# Altium footprint library Wurth_Elektronik_Passive_rev16a.PCBLIB: 810 footprints (part 23 of 51)
Each footprint in its own frame and in the unit in brackets; x right, y up, seen from the top. Pads: shape width x height; smd on the part's side, far side on the other; paste and mask are expansions set on the pad; w line width, h text height; cw(c..) or ccw(c..) is an arc to the next point about the centre after c.
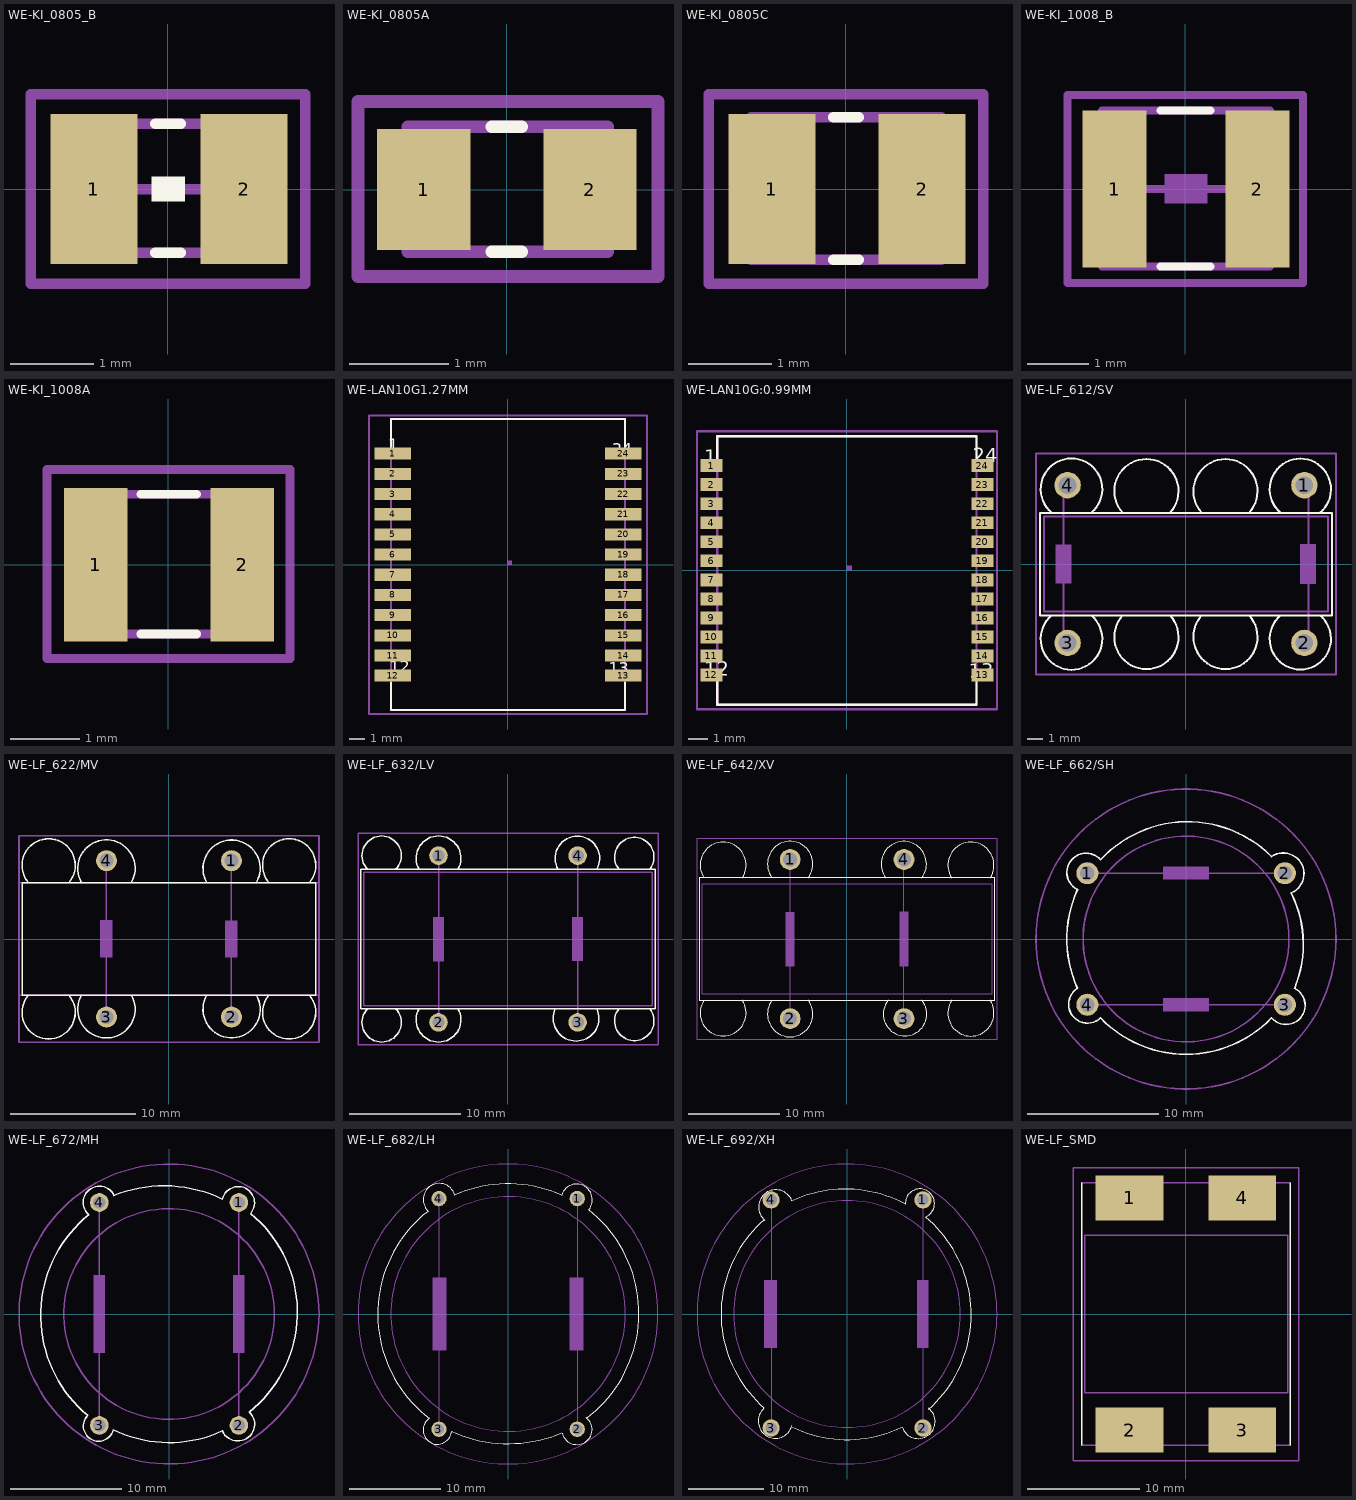
[diagram p22: the footprints below, top view; thin cyan lines are the x and y axes]

## WE-KI_0805_B [mil]
pads (2):
  rect 41x71 smd: 1(-35.04,0) 2(36,0)
Top Overlay:
  region: 7.98,-5.89 7.98,6.02 -7.89,6.02 -7.89,-5.89
  lines w5: -5.91,-30.12 6,-30.12 ; -5.91,31 6,31
Mechanical 2:
  text ">NAME" at -62.34,-87.01 h37.2
Mechanical 4:
  text ">VALUE" at -62.34,62 h37.2
Mechanical 16:
  lines w5: -35.04,0 36,0 ; -40.35,-30.12 41,-30.12 41,31 -40.35,31 -40.35,-30.12
Mechanical 27:
  lines w5: -64.96,-44.88 -64.96,45 65,45 65,-44.88 -64.96,-44.88

## WE-KI_0805A [mil]
pads (2):
  rect 37x48 smd: 1(-32.97,0) 2(33,0)
Top Overlay:
  lines w5: -5.91,-24.61 6,-24.61 ; -5.91,25 6,25
Mechanical 2:
  text ">NAME" at -59.06,-66.93 h18.6
Mechanical 4:
  text ">VALUE" at -59.06,56 h18.6
Mechanical 16:
  lines w5: -39.37,-24.61 40,-24.61 40,25 -39.37,25 -39.37,-24.61
Mechanical 27:
  lines w5: -59.06,-34.45 -59.06,35 60,35 60,-34.45 -59.06,-34.45

## WE-KI_0805C [mil]
pads (2):
  rect 41x71 smd: 1(-35.04,0) 2(36,0)
Top Overlay:
  lines w5: -5.91,-33.46 6,-33.46 ; -5.91,34 6,34
Mechanical 2:
  text ">NAME" at -66.93,-74.8 h18.6
Mechanical 4:
  text ">VALUE" at -66.93,63 h18.6
Mechanical 16:
  lines w5: -44.88,-33.46 45,-33.46 45,34 -44.88,34 -44.88,-33.46
Mechanical 27:
  lines w5: -64.96,-44.88 -64.96,45 65,45 65,-44.88 -64.96,-44.88

## WE-KI_1008_B [mil]
pads (2):
  rect 41x100 smd: 1(-45.08,0) 2(46,0)
Top Overlay:
  lines w5: -15.75,-49.21 16,-49.21 ; -15.75,50 16,50
Mechanical 2:
  text ">NAME" at -72.19,-89.84 h37.2
Mechanical 4:
  text ">VALUE" at -72.19,65 h37.2
Mechanical 16:
  region: 14.25,-9.27 14.25,9.75 -13.27,9.75 -13.27,-9.27
  lines w5: -45.08,0 46,0 ; -53.15,-49.21 54,-49.21 54,50 -53.15,50 -53.15,-49.21
Mechanical 27:
  lines w5: -75,-59.84 -75,60 75,60 75,-59.84 -75,-59.84

## WE-KI_1008A [mil]
pads (2):
  rect 36x87 smd: 1(-41.34,0) 2(42,0)
Top Overlay:
  lines w5: -15.75,-39.37 16,-39.37 ; -15.75,40 16,40
Mechanical 2:
  text ">NAME" at -68.9,-78.74 h18.6
Mechanical 4:
  text ">VALUE" at -68.9,69 h18.6
Mechanical 16:
  lines w5: -49.21,-39.37 50,-39.37 50,40 -49.21,40 -49.21,-39.37
Mechanical 27:
  lines w5: -68.9,-53.15 -68.9,54 69,54 69,-53.15 -68.9,-53.15

## WE-LAN10G1.27MM [mil]
pads (24):
  rect 91x30 smd: 1(-285.04,275) 2(-285.04,225) 3(-285.04,175) 4(-285.04,125) 5(-285.04,75) 6(-285.04,25) 7(-285.04,-25) 8(-285.04,-75) 9(-285.04,-125) 10(-285.04,-175) 11(-285.04,-225) 12(-285.04,-275) 13(286,-275) 14(286,-225) 15(286,-175) 16(286,-125) 17(286,-75) 18(286,-25) 19(286,25) 20(286,75) 21(286,125) 22(286,175) 23(286,225) 24(286,275)
Top Overlay:
  lines w5: -289.37,-291.34 -289.37,-360.04 290,-360.04 290,-291.34 ; -289.37,292 -289.37,361 290,361 290,292
  text "1" at -296.85,274 h49.6
  text "12" at -292.13,-276.38 h49.6
  text "13" at 250,-280.31 h49.6
  text "24" at 258,262 h49.6
Mechanical 2:
  text ">NAME" at -123.23,412 h77.5
  text ">VALUE" at -142.91,-446.46 h77.5
Mechanical 10:
  region: 0,0 10,0 10,10 0,10
Mechanical 16:
  lines w5: -289.37,-360.04 290,-360.04 290,361 -289.37,361 -289.37,-360.04
Mechanical 27:
  lines w5: -344.29,-369.88 345,-369.88 345,370 -344.29,370 -344.29,-369.88

## WE-LAN10G:0.99MM [mil]
pads (24):
  rect 45x26 smd: 1(-277.56,215) 2(-277.56,176) 3(-277.56,137) 4(-277.56,98) 5(-277.56,59) 6(-277.56,20) 7(-277.56,-19.49) 8(-277.56,-58.46) 9(-277.56,-97.44) 10(-277.56,-136.42) 11(-277.56,-175.39) 12(-277.56,-214.37) 13(278,-214.37) 14(278,-175.39) 15(278,-136.42) 16(278,-97.44) 17(278,-58.46) 18(278,-19.49) 19(278,20) 20(278,59) 21(278,98) 22(278,137) 23(278,176) 24(278,215)
Top Overlay:
  lines w5: -265.75,-224.41 -265.75,-275 266,-275 266,-224.41 ; -265.75,229 -265.75,275 266,275 266,225
  text "1" at -292.13,208 h49.6
  text "12" at -292.13,-226.38 h49.6
  text "13" at 250,-230.31 h49.6
  text "24" at 258,212 h49.6
Mechanical 2:
  text ">NAME" at -173.23,312 h77.5
  text ">VALUE" at -192.91,-346.46 h77.5
Mechanical 10:
  region: 0,0 10,0 10,10 0,10
Mechanical 16:
  lines w5: -265.75,-275 -265.75,275 266,275 266,-275 -265.75,-275
Mechanical 27:
  lines w5: -307.09,-284.84 308,-284.84 308,285 -307.09,285 -307.09,-284.84

## WE-LF_612/SV [mil]
pads (4):
  round 66 hole 44: 1(296,197) 2(296,-196.85) 3(-295.28,-196.85) 4(-295.28,197)
Top Overlay:
  lines w5: -334.65,-127.95 -364.17,-127.95 -364.17,128 -334.65,128 ; -334.65,-127.95 -236.22,-127.95 ; -334.65,-127.95 ccw(c-285.43,-187.01) -236.22,-127.95 ; -334.65,128 -236.22,128 ; -334.65,128 cw(c-285.43,187.06) -236.22,128 ; -236.22,-127.95 -157.48,-127.95 ; -236.22,128 -157.48,128 ; -157.48,-127.95 -39.37,-127.95 ; -157.48,-127.95 ccw(c-98.43,-182.09) -39.37,-127.95 ; -157.48,128 -39.37,128 ; -157.48,128 cw(c-98.43,182.13) -39.37,128 ; -39.37,-127.95 40,-127.95 ; -39.37,128 40,128 ; 40,-127.95 158,-127.95 ; 40,-127.95 ccw(c99,-182.04) 158,-127.95 ; 40,128 158,128 ; 40,128 cw(c99,182.08) 158,128 ; 158,-127.95 237,-127.95 ; 158,128 237,128 ; 237,-127.95 335,-127.95 ; 237,-127.95 ccw(c286,-186.75) 335,-127.95 ; 237,128 335,128 ; 237,128 cw(c286,186.8) 335,128 ; 335,-127.95 365,-127.95 365,128 335,128
Mechanical 2:
  text ">NAME" at -225,-403.74 h108.5
Mechanical 4:
  text ">VALUE" at -225,329 h108.5
Mechanical 10:
  lines w5: -354.33,-118.11 -354.33,119 355,119 355,-118.11 -354.33,-118.11
Mechanical 16:
  region: 285.66,49.66 285.66,-49.34 325.34,-49.34 325.34,49.66
  region: -324.96,49.37 -324.96,-49.06 -285.27,-49.06 -285.27,49.37
  lines w5: -305.12,-196.85 -305.12,197 ; 306,-196.85 306,197
Mechanical 27:
  lines w5: -374.02,-275.59 -374.02,276 375,276 375,-275.59 -374.02,-275.59

## WE-LF_622/MV [mil]
pads (4):
  round 66 hole 44: 1(197,247) 2(197,-246.06) 3(-196.85,-246.06) 4(-196.85,247)
Top Overlay:
  lines w5: -442.91,-177.17 -462.6,-177.17 -462.6,178 -442.91,178 ; -442.91,-177.17 -314.96,-177.17 ; -442.91,-177.17 ccw(c-378.94,-231.3) -314.96,-177.17 ; -442.91,178 -314.96,178 ; -442.91,178 cw(c-378.94,232.13) -314.96,178 ; -314.96,-177.17 -275.59,-177.17 ; -314.96,178 -275.59,178 ; -275.59,-177.17 -118.11,-177.17 ; -275.59,-177.17 ccw(c-196.85,-221.46) -118.11,-177.17 ; -275.59,178 -118.11,178 ; -275.59,178 cw(c-196.85,222.29) -118.11,178 ; -118.11,-177.17 119,-177.17 ; -118.11,178 119,178 ; 119,-177.17 276,-177.17 ; 119,-177.17 ccw(c197.5,-221.32) 276,-177.17 ; 119,178 276,178 ; 119,178 cw(c197.5,222.16) 276,178 ; 276,-177.17 315,-177.17 ; 276,178 315,178 ; 315,-177.17 443,-177.17 ; 315,-177.17 ccw(c379,-231.32) 443,-177.17 ; 315,178 443,178 ; 315,178 cw(c379,232.15) 443,178 ; 443,-177.17 463,-177.17 463,178 443,178
Mechanical 2:
  text ">NAME" at -200,-425 h108.5
Mechanical 4:
  text ">VALUE" at -200,379 h108.5
Mechanical 10:
  lines w5: -472.44,-177.17 -472.44,178 473,178 473,-177.17 -472.44,-177.17
Mechanical 16:
  region: 177.16,59.16 177.16,-58.84 216.84,-58.84 216.84,59.16
  region: -216.69,59.21 -216.69,-58.9 -177,-58.9 -177,59.21
  lines w5: -196.85,-246.06 -196.85,247 ; 197,-246.06 197,247
Mechanical 27:
  lines w5: -472.44,-324.8 -472.44,325 473,325 473,-324.8 -472.44,-324.8

## WE-LF_632/LV [mil]
pads (4):
  round 66 hole 44: 1(-246.06,296) 2(-246.06,-295.28) 3(247,-295.28) 4(247,296)
Top Overlay:
  lines w5: -497.05,-246.06 -521.65,-246.06 -521.65,247 -497.05,247 ; -497.05,-246.06 -398.62,-246.06 ; -497.05,-246.06 ccw(c-447.83,-295.28) -398.62,-246.06 ; -497.05,247 -398.62,247 ; -497.05,247 cw(c-447.83,296.21) -398.62,247 ; -398.62,-246.06 -314.96,-246.06 ; -398.62,247 -314.96,247 ; -314.96,-246.06 -177.17,-246.06 ; -314.96,-246.06 ccw(c-246.06,-285.43) -177.17,-246.06 ; -314.96,247 -177.17,247 ; -314.96,247 cw(c-246.06,286.37) -177.17,247 ; -177.17,-246.06 168,-246.06 ; -177.17,247 178,247 ; 168,-246.06 315,-246.06 ; 168,-246.06 ccw(c241.5,-280.36) 315,-246.06 ; 178,247 315,247 ; 178,247 cw(c246.5,286.14) 315,247 ; 315,-246.06 394,-246.06 ; 315,247 394,247 ; 394,-246.06 502,-246.06 ; 394,-246.06 ccw(c448,-290.24) 502,-246.06 ; 394,247 502,247 ; 394,247 cw(c448,291.18) 502,247 ; 502,-246.06 522,-246.06 522,247 502,247
Mechanical 2:
  text ">NAME" at -300,-550 h155
Mechanical 4:
  text ">VALUE" at -300,400 h155
Mechanical 10:
  lines w5: -511.81,-236.22 512,-236.22 512,237 -511.81,237 -511.81,-236.22
Mechanical 16:
  region: -226.22,-78.58 -226.22,78.9 -265.91,78.9 -265.91,-78.58
  region: 266.34,-78.34 266.34,78.66 226.66,78.66 226.66,-78.34
  lines w5: -246.06,-295.28 -246.06,296 ; 247,-295.28 247,296
Mechanical 27:
  lines w5: -531.5,-374.02 532,-374.02 532,375 -531.5,375 -531.5,-374.02

## WE-LF_642/XV [mil]
pads (4):
  round 90 hole 60: 1(-246.06,345) 2(-246.06,-344.49) 3(247,-344.49) 4(247,345)
Top Overlay:
  lines w5: -620.08,-265.75 -639.76,-265.75 -639.76,266 -620.08,266 ; -620.08,-265.75 -452.76,-265.75 ; -620.08,-265.75 ccw(c-536.42,-319.88) -452.76,-265.75 ; -620.08,266 -452.76,266 ; -620.08,266 cw(c-536.42,320.13) -452.76,266 ; -452.76,-265.75 -324.8,-265.75 ; -452.76,266 -324.8,266 ; -324.8,-265.75 -167.32,-265.75 ; -324.8,-265.75 ccw(c-246.06,-324.8) -167.32,-265.75 ; -324.8,266 -167.32,266 ; -324.8,266 cw(c-246.06,325.06) -167.32,266 ; -167.32,-265.75 178,-265.75 ; -167.32,266 168,266 ; 168,266 325,266 ; 168,266 cw(c246.5,324.88) 325,266 ; 178,-265.75 325,-265.75 ; 178,-265.75 ccw(c251.5,-324.55) 325,-265.75 ; 325,-265.75 453,-265.75 ; 325,266 453,266 ; 453,-265.75 621,-265.75 ; 453,-265.75 ccw(c537,-320.1) 621,-265.75 ; 453,266 621,266 ; 453,266 cw(c537,320.35) 621,266 ; 621,-265.75 640,-265.75 640,266 621,266
Mechanical 2:
  text ">NAME" at -625,-550 h108.5
Mechanical 4:
  text ">VALUE" at -625,475 h108.5
Mechanical 10:
  lines w5: -629.92,-236.22 630,-236.22 630,237 -629.92,237 -629.92,-236.22
Mechanical 16:
  region: -226.22,-117.95 -226.22,118.27 -265.91,118.27 -265.91,-117.95
  region: 266.34,-118.34 266.34,118.66 226.66,118.66 226.66,-118.34
  lines w5: -246.06,-344.49 -246.06,345 ; 247,-344.49 247,345
Mechanical 27:
  lines w5: -649.61,-433.07 650,-433.07 650,434 -649.61,434 -649.61,-433.07

## WE-LF_662/SH [mil]
pads (4):
  round 66 hole 44: 1(-295.28,197) 2(296,197) 3(296,-196.85) 4(-295.28,-196.85)
Top Overlay:
  lines w5: -324.8,-147.64 cw(c0.4,0.18) -324.8,148 cw(c-299.25,199.39) -255.91,237 cw(c4.86,-4.12) 256,247 cw(c290.95,195.45) 315,138 cw(c5.8,-15.82) 325,-147.64 cw(c299.36,-198.83) 256,-236.22 cw(c0.05,9.9) -255.91,-236.22 cw(c-294.78,-195.37) -324.8,-147.64
Mechanical 2:
  text ">NAME" at -300,-600 h155
Mechanical 4:
  text ">VALUE" at -300,500 h155
Mechanical 10:
  circle w5: c0,0 r308
Mechanical 16:
  rectangle: -68.9,178 69,217
  rectangle: -68.9,-216.54 69,-177.16
  lines w5: -295.28,-196.85 296,-196.85 ; -295.28,197 296,197
Mechanical 27:
  circle w5: c0,0 r449

## WE-LF_672/MH [mil]
pads (4):
  round 66 hole 44: 1(247,394) 2(247,-393.7) 3(-246.06,-393.7) 4(-246.06,394)
Top Overlay:
  lines w5: -196.85,418 cw(c-17.46,-23.07) 189,406 cw(c244.88,392.88) 288,355 cw(c2.26,5.89) 284,-346.46 cw(c243.19,-389.42) 189,-413.39 cw(c0.27,0.03) -196.85,-409.45 cw(c-248.8,-395.67) -287.4,-358.27 cw(c6.16,-5.25) -283.46,351 cw(c-245.47,394.34) -192.91,418
Mechanical 2:
  text ">NAME" at -600,200 h108.5
Mechanical 4:
  text ">VALUE" at 500,200 h108.5
Mechanical 10:
  circle w5: c0,0 r372
Mechanical 16:
  region: -265.91,137.95 -265.91,-137.64 -226.22,-137.64 -226.22,137.95
  region: 226.66,137.66 226.66,-137.34 266.34,-137.34 266.34,137.66
  lines w5: -246.06,-393.7 -246.06,394 ; 247,-393.7 247,394
Mechanical 27:
  circle w5: c0,0 r530

## WE-LF_682/LH [mil]
pads (4):
  round 66 hole 44: 1(298,497) 2(298,-496.06) 3(-297.24,-496.06) 4(-297.24,497)
Top Overlay:
  lines w5: -346.46,441 ccw(c0.06,-0.88) -338.58,-448.82 ; -344.09,443 cw(c-295.83,492.85) -229.13,512 ; -341.73,-451.18 ccw(c-304.3,-499.78) -243.31,-506.3 ; -244.09,-503.94 ccw(c1.28,22.32) 229,-511.81 ; -228.35,512 cw(c0.33,-0.54) 229,512 ; 231,512 cw(c295.68,491.97) 348,449 ; 234,-514.17 ccw(c296.89,-497.04) 338,-446.46 ; 339,-448.82 ccw(c-2.66,3.17) 347,449
Mechanical 2:
  text ">NAME" at -750,300 h155
Mechanical 4:
  text ">VALUE" at 650,300 h155
Mechanical 10:
  circle w5: c0,0 r505
Mechanical 16:
  region: 265.73,157.73 265.73,-157.27 325.27,-157.27 325.27,157.73
  region: -325.04,157.72 -325.04,-157.25 -265.51,-157.25 -265.51,157.72
  lines w5: -297.24,-496.06 -297.24,497 ; 298,-496.06 298,497
Mechanical 27:
  circle w5: c0,0 r646

## WE-LF_692/XH [mil]
pads (4):
  round 90 hole 60: 1(396,595) 2(396,-594.49) 3(-395.67,-594.49) 4(-395.67,595)
Top Overlay:
  lines w5: -433.07,-492.13 ccw(c-373.17,-558.21) -287.4,-582.68 ; -433.07,-488.19 cw(c-11.46,0.41) -433.07,489 ; -429.13,489 cw(c-371.01,557.71) -287.4,591 ; -283.46,-590.55 ccw(c0.27,0.56) 284,-590.55 ; -283.46,591 cw(c-8.06,-12.29) 300,575 ; 288,-590.55 ccw(c371.06,-561.05) 426,-492.13 ; 304,571 cw(c380,576.17) 414,508 ; 410,504 cw(c-11.28,-2.9) 426,-496.06
Mechanical 2:
  text ">NAME" at -850,300 h155
Mechanical 4:
  text ">VALUE" at 750,300 h155
Mechanical 10:
  circle w5: c0,0 r591
Mechanical 16:
  region: -433.35,177.44 -433.35,-176.89 -363.89,-176.89 -363.89,177.44
  region: 364.23,177.23 364.23,-176.77 423.77,-176.77 423.77,177.23
  lines w5: -395.67,-594.49 -395.67,595 ; 396,-594.49 396,595
Mechanical 27:
  circle w5: c0,0 r782

## WE-LF_SMD [mil]
pads (4):
  rect 237x158 smd: 1(-196.85,406) 2(-196.85,-405.51) 3(197,-405.51) 4(197,406)
Top Overlay:
  lines w5: -364.17,-458.66 -364.17,459 ; 365,-458.66 365,459
Mechanical 2:
  text ">NAME" at 434,434 h77.5
Mechanical 4:
  text ">VALUE" at -511.81,434 h77.5
Mechanical 10:
  lines w5: -354.33,-275.59 -354.33,276 355,276 355,-275.59 -354.33,-275.59
Mechanical 16:
  lines w5: -364.17,-458.66 365,-458.66 ; -364.17,459 365,459
Mechanical 27:
  lines w5: -393.7,-511.81 -393.7,512 394,512 394,-511.81 -393.7,-511.81